# Altium schematic symbol library HC-PZ127-7.2L-2x7PS.SchLib: 1 symbol
Pins are listed as number, name and electrical type; pins without a type are passive.

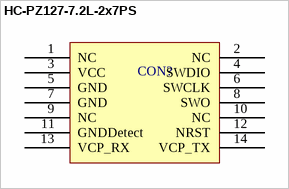
[diagram p0: symbol HC-PZ127-7.2L-2x7PS]

## HC-PZ127-7.2L-2x7PS
designator CON?  (value not drawn)
footprint HC-PZ127-7.2L-2x7PS
pins: 1 NC, 2 NC, 3 VCC, 4 SWDIO, 5 GND, 6 SWCLK, 7 GND, 8 SWO, 9 NC, 10 NC, 11 GNDDetect, 12 NRST, 13 VCP_RX, 14 VCP_TX